# Altium footprint library FRONT-UNIT-71.PcbLib: 35 footprints (part 3 of 3)
Each footprint in its own frame and in the unit in brackets; x right, y up, seen from the top. Pads: shape width x height; smd on the part's side, far side on the other; paste and mask are expansions set on the pad; w line width, h text height; cw(c..) or ccw(c..) is an arc to the next point about the centre after c.
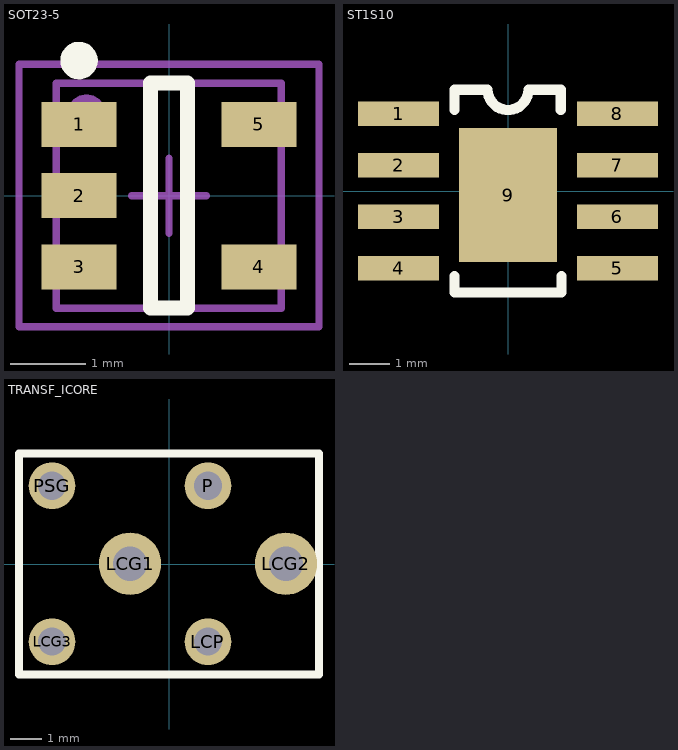
[diagram p2: the footprints below, top view; thin cyan lines are the x and y axes]

## SOT23-5 [mm] "SOT23, 5-Leads, Body 2,90x2,80mm, Pitch 0,95mm, IPC Medium Density"
height 1.45
pads (6):
  rect 1x0.6 smd: 1(-1.2,0.95) 2(-1.2,0) 3(-1.2,-0.95) 4(1.2,-0.95) 5(1.2,0.95)
  round 0.5 on Mech1: ""(-1.1,1.1)
Top Overlay:
  circle w0.25: c-1.2,1.8 r0.125
  lines w0.2: -0.25,-1.5 -0.25,1.5 0.25,1.5 0.25,-1.5 -0.25,-1.5
Mechanical 1:
  lines w0.1: -1.5,-1.5 1.5,-1.5 1.5,1.5 -1.5,1.5 -1.5,-1.5
Mechanical 15:
  lines w0.1: -0.5,0 0.5,0 ; 0,-0.5 0,0.5 ; -2,-1.75 2,-1.75 2,1.75 -2,1.75 -2,-1.75
3D body "SOT23-5-1.step": height 1.3, standoff 0, extent -1.5,-1.5 1.5,1.5

## ST1S10 [mm]
pads (9):
  rect 2x0.6 smd: 1(-2.7,1.905) 2(-2.7,0.635) 3(-2.7,-0.635) 4(-2.7,-1.905) 5(2.7,-1.905) 6(2.7,-0.635) 7(2.7,0.635) 8(2.7,1.905)
  rect 2.41x3.3 smd: 9(0,-0.1)
Top Overlay:
  lines w0.254: -1.317,-2.5 -1.317,-2.1 ; -1.317,2 -1.317,2.5 ; -1.302,-2.5 1.302,-2.5 ; -1.302,2.5 -0.503,2.5 ; -0.503,2.503 ccw(c0,2.503) 0.503,2.503 ; 0.503,2.5 1.302,2.5 1.302,2 ; 1.317,-2.5 1.317,-2.1

## TRANSF_ICORE [mm]
pads (6):
  round 2 hole 1.1: LCG1(-1.25,0.01) LCG2(3.75,0.01)
  round 1.5 hole 0.9: LCG3(-3.75,-2.49) LCP(1.25,-2.49) P(1.25,2.51) PSG(-3.75,2.51)
Top Overlay:
  lines w0.254: -4.81,-3.54 -4.81,3.54 4.81,3.54 4.81,-3.54 -4.81,-3.54